# Altium schematic symbol library aircraftschlib.SchLib: 14 symbols
Pins are listed as number, name and electrical type; pins without a type are passive.

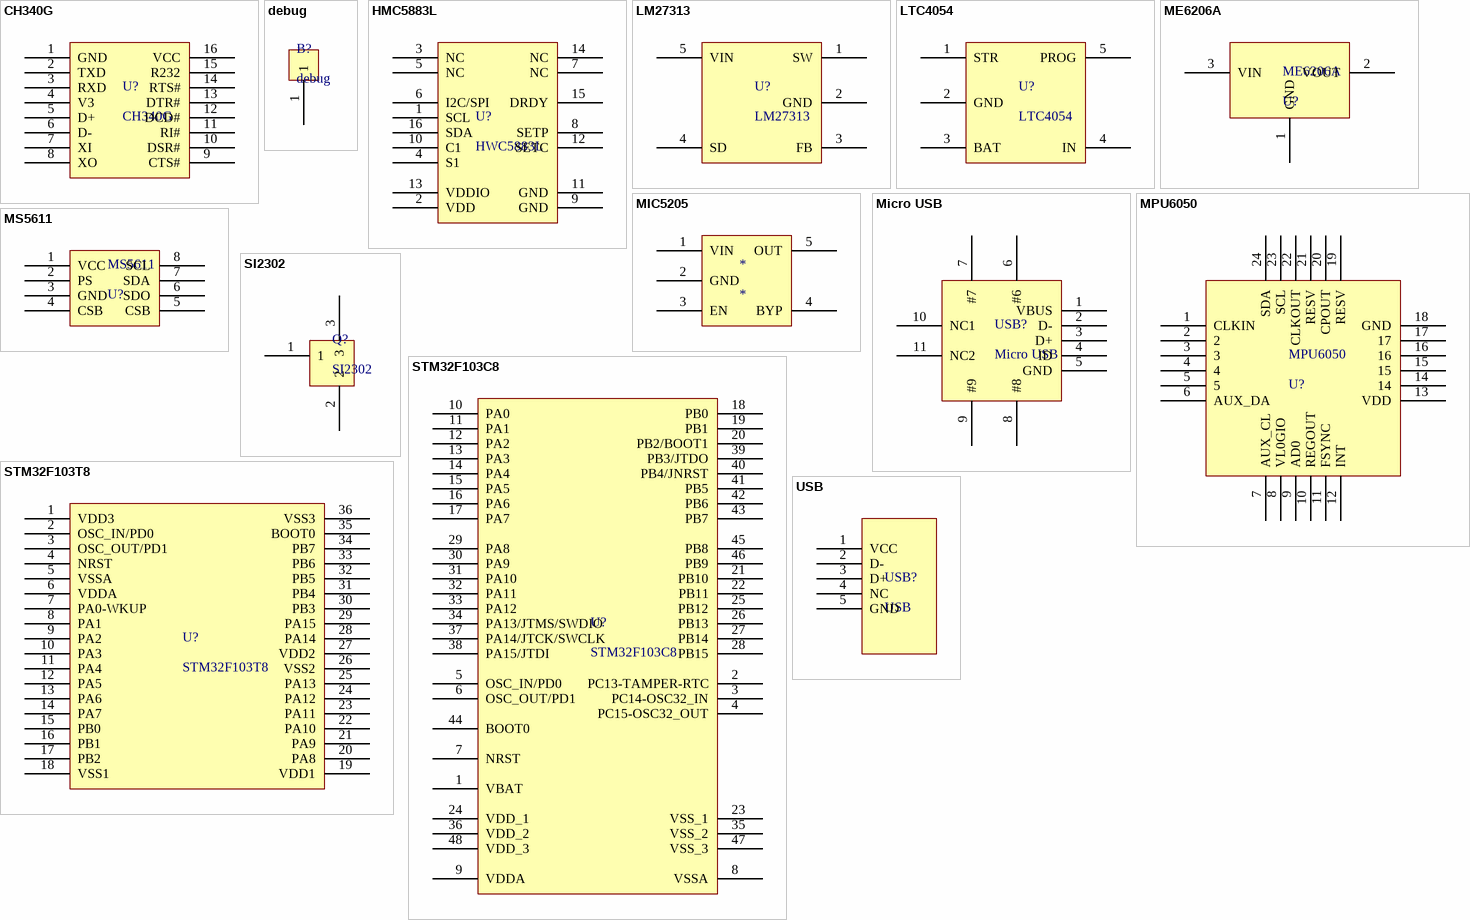
[diagram p0: symbols CH340G to USB]

## CH340G
designator U?
pins: 1 GND, 2 TXD, 3 RXD, 4 V3, 5 D+, 6 D-, 7 XI, 8 XO, 9 CTS#, 10 DSR#, 11 RI#, 12 DCD#, 13 DTR#, 14 RTS#, 15 R232, 16 VCC

## debug
designator B?
pins: 1

## HMC5883L
designator U?, comment HWC5883L
pins: 1 SCL, 2 VDD, 3 NC, 4 S1, 5 NC, 6 I2C/SPI, 7 NC, 8 SETP, 9 GND, 10 C1, 11 GND, 12 SETC, 13 VDDIO, 14 NC, 15 DRDY, 16 SDA

## LM27313
designator U?
pins: 1 SW, 2 GND, 3 FB, 4 SD, 5 VIN

## LTC4054
designator U?
pins: 1 STR, 2 GND, 3 BAT, 4 IN, 5 PROG

## ME6206A
designator ME6206A, comment U?
pins: 1 GND, 2 VOUT, 3 VIN

## MIC5205
designator *
pins: 1 VIN, 2 GND, 3 EN, 4 BYP, 5 OUT

## Micro USB
designator USB?
pins: 1 VBUS, 2 D-, 3 D+, 4 ID, 5 GND, 6 #6, 7 #7, 8 #8, 9 #9, 10 NC1, 11 NC2

## MPU6050
designator MPU6050, comment U?
pins: 1 CLKIN, 2, 3, 4, 5, 6 AUX_DA, 7 AUX_CL, 8 VL0GIO, 9 AD0, 10 REGOUT, 11 FSYNC, 12 INT, 13 VDD, 14, 15, 16, 17, 18 GND, 19 RESV, 20 CPOUT, 21 RESV, 22 CLKOUT, 23 SCL, 24 SDA

## MS5611
designator MS5611, comment U?
pins: 1 VCC, 2 PS, 3 GND, 4 CSB, 5 CSB, 6 SDO, 7 SDA, 8 SCL

## SI2302
designator Q?
pins: 1, 2, 3

## STM32F103C8
designator U?
pins: 1 VBAT, 2 PC13-TAMPER-RTC, 3 PC14-OSC32_IN, 4 PC15-OSC32_OUT, 5 OSC_IN/PD0, 6 OSC_OUT/PD1, 7 NRST, 8 VSSA, 9 VDDA, 10 PA0, 11 PA1, 12 PA2, 13 PA3, 14 PA4, 15 PA5, 16 PA6, 17 PA7, 18 PB0, 19 PB1, 20 PB2/BOOT1, 21 PB10, 22 PB11, 23 VSS_1, 24 VDD_1, 25 PB12, 26 PB13, 27 PB14, 28 PB15, 29 PA8, 30 PA9, 31 PA10, 32 PA11, 33 PA12, 34 PA13/JTMS/SWDIO, 35 VSS_2, 36 VDD_2, 37 PA14/JTCK/SWCLK, 38 PA15/JTDI, 39 PB3/JTDO, 40 PB4/JNRST, 41 PB5, 42 PB6, 43 PB7, 44 BOOT0, 45 PB8, 46 PB9, 47 VSS_3, 48 VDD_3

## STM32F103T8
designator U?
pins: 1 VDD3, 2 OSC_IN/PD0, 3 OSC_OUT/PD1, 4 NRST, 5 VSSA, 6 VDDA, 7 PA0-WKUP, 8 PA1, 9 PA2, 10 PA3, 11 PA4, 12 PA5, 13 PA6, 14 PA7, 15 PB0, 16 PB1, 17 PB2, 18 VSS1, 19 VDD1, 20 PA8, 21 PA9, 22 PA10, 23 PA11, 24 PA12, 25 PA13, 26 VSS2, 27 VDD2, 28 PA14, 29 PA15, 30 PB3, 31 PB4, 32 PB5, 33 PB6, 34 PB7, 35 BOOT0, 36 VSS3

## USB
designator USB?
pins: 1 VCC, 2 D-, 3 D+, 4 NC, 5 GND